# Altium schematic symbol library SCH - INTERFACE - PCA9655EM.SchLib: 1 symbol
Pins are listed as number, name and electrical type; pins without a type are passive.

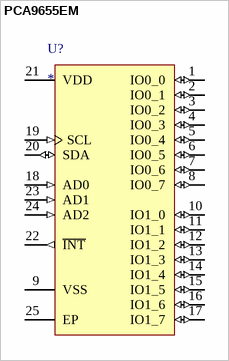
[diagram p0: symbol PCA9655EM]

## PCA9655EM
designator U?
pins: 1 IO0_0 (io), 2 IO0_1 (io), 3 IO0_2 (io), 4 IO0_3 (io), 5 IO0_4 (io), 6 IO0_5 (io), 7 IO0_6 (io), 8 IO0_7 (io), 9 VSS (power), 10 IO1_0 (io), 11 IO1_1 (io), 12 IO1_2 (io), 13 IO1_3 (io), 14 IO1_4 (io), 15 IO1_5 (io), 16 IO1_6 (io), 17 IO1_7 (io), 18 AD0 (in), 19 SCL (in), 20 SDA (io), 21 VDD (power), 22 ~{INT} (out), 23 AD1 (in), 24 AD2 (in), 25 EP